# Altium integrated library Actel IGLOO.IntLib: 429 symbols (part 22 of 43)
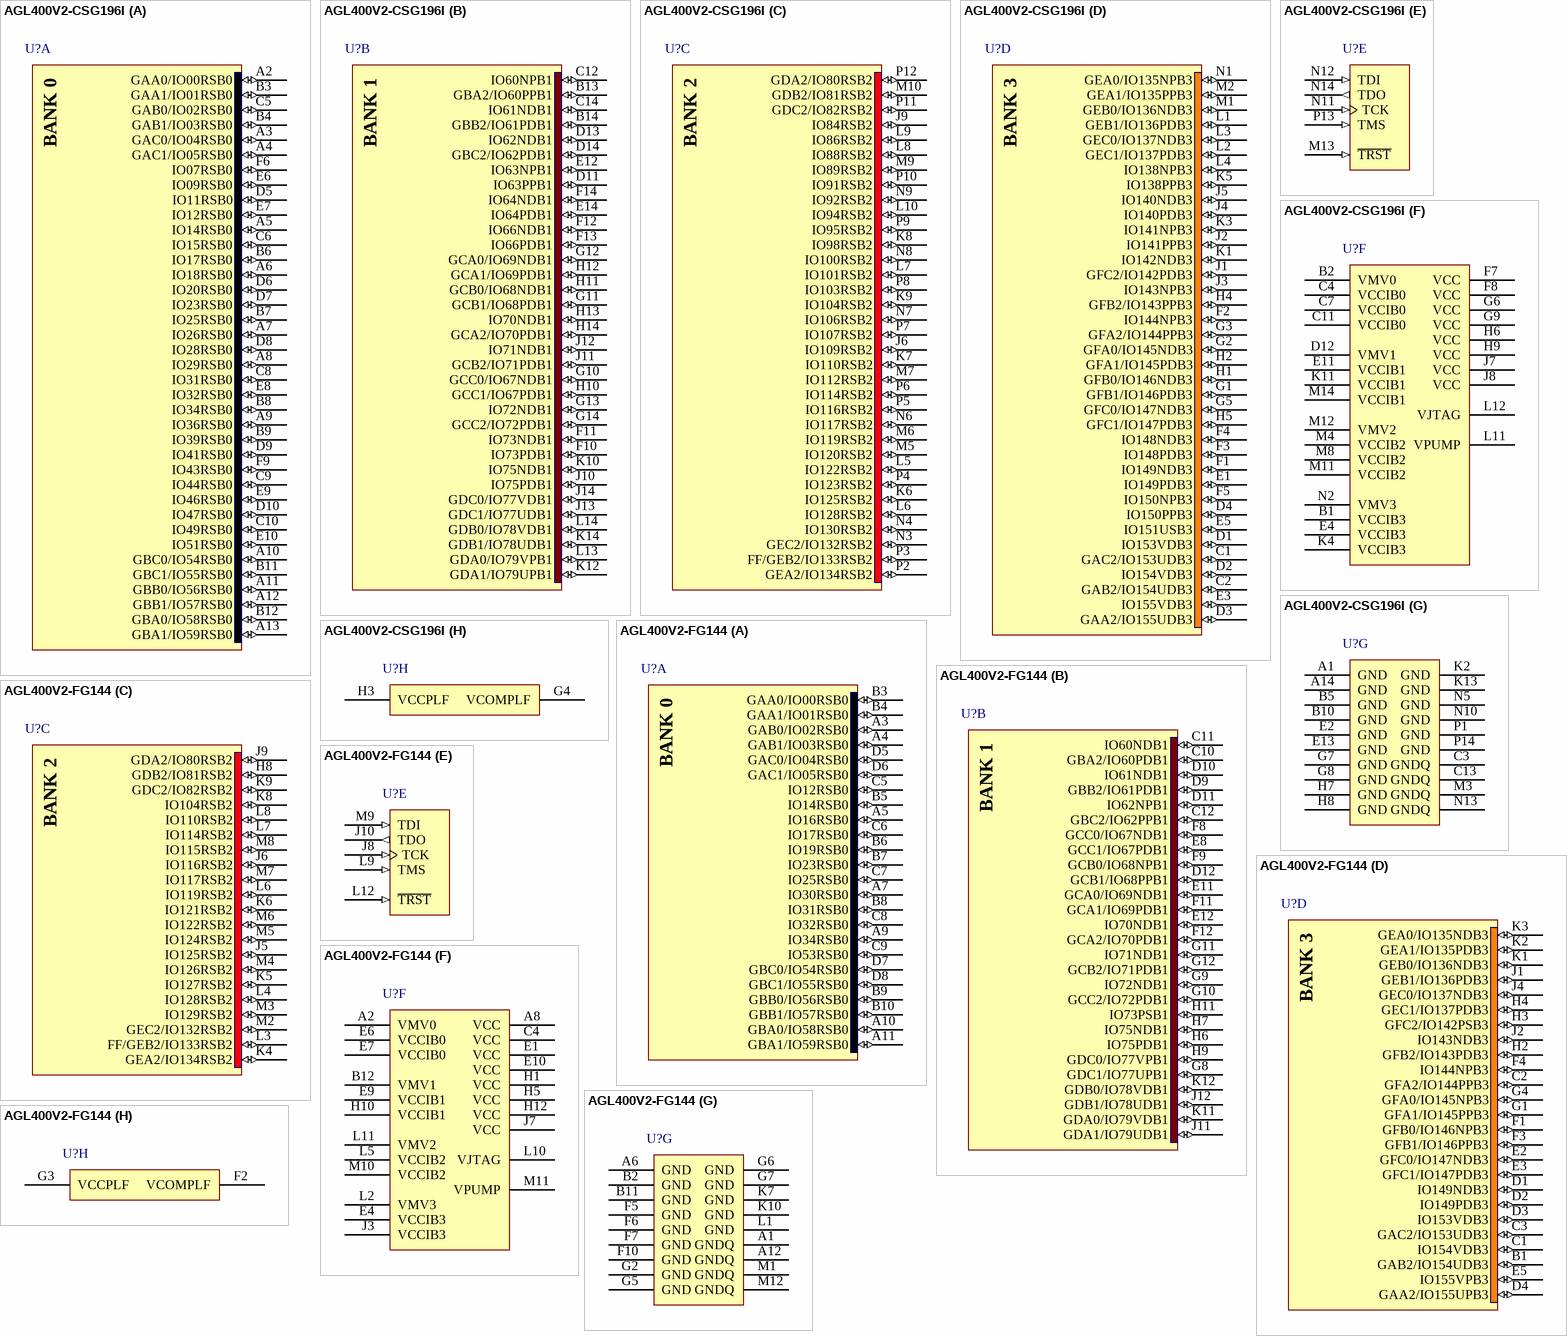
[diagram p367: symbols AGL400V2-CSG196I to AGL400V2-FG144]

## AGL400V2-CSG196I
designator U?
IGLOO Low-Power Flash 1.2/1.5V FPGA with Flash*Freeze, 143 User IOs, 400K System Gates, 54Kbits RAM, 1Kbit Flash ROM, 1 PLL, 196-Pin Chip Scale Pkg, Industrial Grade, Pb-Free; Published: 29-May-2009; DatasheetVersion: Apr-2009; PackageVersion: v10.9, Oct-2008; PackageReference: CS196; Publisher: Altium Limited; PackageDescription: 196-Ball Chip Scale Ball Grid Array 0.5 mm Pitch (CS196); Code_JEDEC: MO-195-BE; ComponentLink1Description: Manufacturer Link; ComponentLink1URL: http://www.actel.com/products/IGLOO/default.aspx; ComponentLink2Description: Datasheet; ComponentLink2URL: http://www.actel.com/documents/IGLOO_HB.pdf
footprint CS196 (BGA, 196-Leads, Body 8x8mm, Pitch 0.5mm)
3D model AGL400-CS196 (196-Ball Chip Scale Ball Grid Array 0.5 mm Pitch (CS196))
signal-integrity model AGL400-CS196 (IGLOO)
part A pins: A2 GAA0/IO00RSB0 (io), A3 GAC0/IO04RSB0 (io), A4 GAC1/IO05RSB0 (io), A5 IO14RSB0 (io), A6 IO18RSB0 (io), A7 IO26RSB0 (io), A8 IO29RSB0 (io), A9 IO36RSB0 (io), A10 GBC0/IO54RSB0 (io), A11 GBB0/IO56RSB0 (io), A12 GBB1/IO57RSB0 (io), A13 GBA1/IO59RSB0 (io), B3 GAA1/IO01RSB0 (io), B4 GAB1/IO03RSB0 (io), B6 IO17RSB0 (io), B7 IO25RSB0 (io), B8 IO34RSB0 (io), B9 IO39RSB0 (io), B11 GBC1/IO55RSB0 (io), B12 GBA0/IO58RSB0 (io), C5 GAB0/IO02RSB0 (io), C6 IO15RSB0 (io), C8 IO31RSB0 (io), C9 IO44RSB0 (io), C10 IO49RSB0 (io), D5 IO11RSB0 (io), D6 IO20RSB0 (io), D7 IO23RSB0 (io), D8 IO28RSB0 (io), D9 IO41RSB0 (io), D10 IO47RSB0 (io), E6 IO09RSB0 (io), E7 IO12RSB0 (io), E8 IO32RSB0 (io), E9 IO46RSB0 (io), E10 IO51RSB0 (io), F6 IO07RSB0 (io), F9 IO43RSB0 (io)
part B pins: B13 GBA2/IO60PPB1 (io), B14 GBB2/IO61PDB1 (io), C12 IO60NPB1 (io), C14 IO61NDB1 (io), D11 IO63PPB1 (io), D13 IO62NDB1 (io), D14 GBC2/IO62PDB1 (io), E12 IO63NPB1 (io), E14 IO64PDB1 (io), F10 IO73PDB1 (io), F11 IO73NDB1 (io), F12 IO66NDB1 (io), F13 IO66PDB1 (io), F14 IO64NDB1 (io), G10 GCC0/IO67NDB1 (io), G11 GCB1/IO68PDB1 (io), G12 GCA0/IO69NDB1 (io), G13 IO72NDB1 (io), G14 GCC2/IO72PDB1 (io), H10 GCC1/IO67PDB1 (io), H11 GCB0/IO68NDB1 (io), H12 GCA1/IO69PDB1 (io), H13 IO70NDB1 (io), H14 GCA2/IO70PDB1 (io), J10 IO75PDB1 (io), J11 GCB2/IO71PDB1 (io), J12 IO71NDB1 (io), J13 GDC1/IO77UDB1 (io), J14 GDC0/IO77VDB1 (io), K10 IO75NDB1 (io), K12 GDA1/IO79UPB1 (io), K14 GDB1/IO78UDB1 (io), L13 GDA0/IO79VPB1 (io), L14 GDB0/IO78VDB1 (io)
part C pins: J6 IO109RSB2 (io), J9 IO84RSB2 (io), K6 IO125RSB2 (io), K7 IO110RSB2 (io), K8 IO98RSB2 (io), K9 IO104RSB2 (io), L5 IO122RSB2 (io), L6 IO128RSB2 (io), L7 IO101RSB2 (io), L8 IO88RSB2 (io), L9 IO86RSB2 (io), L10 IO94RSB2 (io), M5 IO120RSB2 (io), M6 IO119RSB2 (io), M7 IO112RSB2 (io), M9 IO89RSB2 (io), M10 GDB2/IO81RSB2 (io), N3 GEC2/IO132RSB2 (io), N4 IO130RSB2 (io), N6 IO117RSB2 (io), N7 IO106RSB2 (io), N8 IO100RSB2 (io), N9 IO92RSB2 (io), P2 GEA2/IO134RSB2 (io), P3 FF/GEB2/IO133RSB2 (io), P4 IO123RSB2 (io), P5 IO116RSB2 (io), P6 IO114RSB2 (io), P7 IO107RSB2 (io), P8 IO103RSB2 (io), P9 IO95RSB2 (io), P10 IO91RSB2 (io), P11 GDC2/IO82RSB2 (io), P12 GDA2/IO80RSB2 (io)
part D pins: C1 GAC2/IO153UDB3 (io), C2 GAB2/IO154UDB3 (io), D1 IO153VDB3 (io), D2 IO154VDB3 (io), D3 GAA2/IO155UDB3 (io), D4 IO150PPB3 (io), E1 IO149PDB3 (io), E3 IO155VDB3 (io), E5 IO151USB3 (io), F1 IO149NDB3 (io), F2 IO144NPB3 (io), F3 IO148PDB3 (io), F4 IO148NDB3 (io), F5 IO150NPB3 (io), G1 GFB1/IO146PDB3 (io), G2 GFA0/IO145NDB3 (io), G3 GFA2/IO144PPB3 (io), G5 GFC0/IO147NDB3 (io), H1 GFB0/IO146NDB3 (io), H2 GFA1/IO145PDB3 (io), H4 GFB2/IO143PPB3 (io), H5 GFC1/IO147PDB3 (io), J1 GFC2/IO142PDB3 (io), J2 IO141PPB3 (io), J3 IO143NPB3 (io), J4 IO140PDB3 (io), J5 IO140NDB3 (io), K1 IO142NDB3 (io), K3 IO141NPB3 (io), K5 IO138PPB3 (io), L1 GEB1/IO136PDB3 (io), L2 GEC1/IO137PDB3 (io), L3 GEC0/IO137NDB3 (io), L4 IO138NPB3 (io), M1 GEB0/IO136NDB3 (io), M2 GEA1/IO135PPB3 (io), N1 GEA0/IO135NPB3 (io)
part E pins: M13 ~{TRST} (in), N11 TCK (in), N12 TDI (in), N14 TDO (out), P13 TMS (in)
part F pins: B1 VCCIB3 (power), B2 VMV0 (power), C4 VCCIB0 (power), C7 VCCIB0 (power), C11 VCCIB0 (power), D12 VMV1 (power), E4 VCCIB3 (power), E11 VCCIB1 (power), F7 VCC (power), F8 VCC (power), G6 VCC (power), G9 VCC (power), H6 VCC (power), H9 VCC (power), J7 VCC (power), J8 VCC (power), K4 VCCIB3 (power), K11 VCCIB1 (power), L11 VPUMP (power), L12 VJTAG (power), M4 VCCIB2 (power), M8 VCCIB2 (power), M11 VCCIB2 (power), M12 VMV2 (power), M14 VCCIB1 (power), N2 VMV3 (power)
part G pins: A1 GND (power), A14 GND (power), B5 GND (power), B10 GND (power), C3 GNDQ (power), C13 GNDQ (power), E2 GND (power), E13 GND (power), G7 GND (power), G8 GND (power), H7 GND (power), H8 GND (power), K2 GND (power), K13 GND (power), M3 GNDQ (power), N5 GND (power), N10 GND (power), N13 GNDQ (power), P1 GND (power), P14 GND (power)
part H pins: G4 VCOMPLF (power), H3 VCCPLF (power)
part A text: BANK 0
part B text: BANK 1
part C text: BANK 2
part D text: BANK 3